# EAGLE library part LEDBLOCK10 (library ledblock)
LED BLOCK 10-LED bar graph, DIL, Siemens
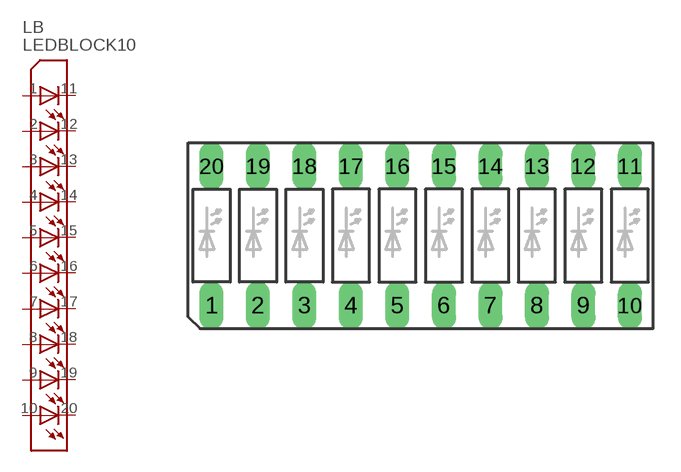
[diagram p0: symbol with the pads of LB10; footprint LB10]

Designator prefix LB

## LEDBLOCK10  [LB10]
1  L1I  pas
2  L1I1  pas
3  L1I2  pas
4  L1I3  pas
5  L1I4  pas
6  L1I5  pas
7  L1I6  pas
8  L1I7  pas
9  L1I8  pas
10  L1I9  pas
11  L1O  pas
12  L1O1  pas
13  L1O2  pas
14  L1O3  pas
15  L1O4  pas
16  L1O5  pas
17  L1O6  pas
18  L1O7  pas
19  L1O8  pas
20  L1O9  pas

## Footprint LB10 (pad centres in mm)
LED BLOCK 10-LED bar graph, DIL, Siemens
drill 0.813 long: 1 -11.43,-3.81; 2 -8.89,-3.81; 3 -6.35,-3.81; 4 -3.81,-3.81; 5 -1.27,-3.81; 6 1.27,-3.81; 7 3.81,-3.81; 8 6.35,-3.81; 9 8.89,-3.81; 10 11.43,-3.81; 11 11.43,3.81; 12 8.89,3.81; 13 6.35,3.81; 14 3.81,3.81; 15 1.27,3.81; 16 -1.27,3.81; 17 -3.81,3.81; 18 -6.35,3.81; 19 -8.89,3.81; 20 -11.43,3.81